# EAGLE library part TI-TMUX1574 (library EagleLibrary)
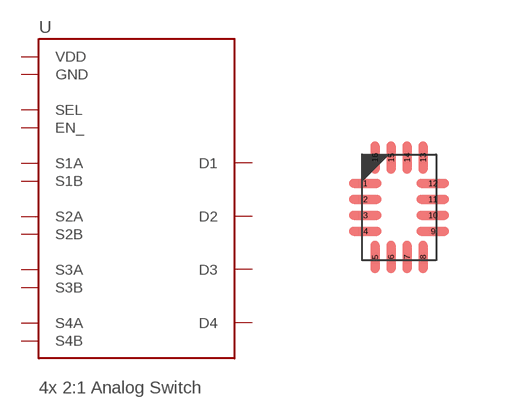
[diagram p36: symbol with the pads of TI-TMUX1574RSVR; footprint TI-TMUX1574RSVR]

Designator prefix U

## TI-TMUX1574 (MFG: Texas Instruments; PN: TMUX1574RSVR)  [TI-TMUX1574RSVR]
1  S1B
2  D1
3  S2A
4  S2B
5  D2
6  GND
7  D3
8  S3B
9  S3A
10  D4
11  S4B
12  S4A
13  EN_
14  VDD
15  SEL
16  S1A

## Footprint TI-TMUX1574RSVR (pad centres in mm)
16-QFN, 0.40 mm pitch, 2.60 X 1.80 X 0.55 mm body 16-pin QFN package with 0.40 mm pitch with body size 2.60 X 1.80 X 0.55 mm
smd 0.81 x 0.22: 1 -0.845,0.6; 2 -0.845,0.2; 3 -0.845,-0.2; 4 -0.845,-0.6; 9 0.845,-0.6; 10 0.845,-0.2; 11 0.845,0.2; 12 0.845,0.6
smd 0.22 x 0.81: 5 -0.6,-1.245; 6 -0.2,-1.245; 7 0.2,-1.245; 8 0.6,-1.245; 13 0.6,1.245; 14 0.2,1.245; 15 -0.2,1.245; 16 -0.6,1.245